# Altium schematic symbol library SWITCH.SchLib: 4 symbols
Pins are listed as number, name and electrical type; pins without a type are passive.

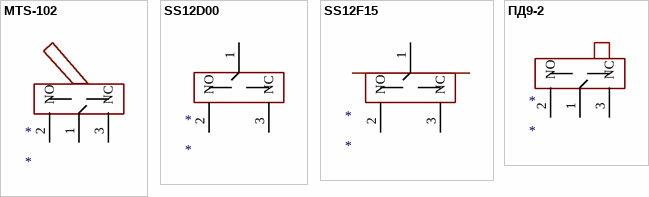
[diagram p0: symbols MTS-102 to ПД9-2]

## MTS-102
designator *
MTS-102-A1
footprint MTS-102
pins: 1 COM, 2 NO, 3 NC

## SS12D00
designator *
SS-12D00-G4
footprint SS12D00
pins: 1 COM, 2 NO, 3 NC

## SS12F15
designator *
SS12F15L5
footprint SS12F15
pins: 1 COM, 2 NO, 3 NC

## ПД9-2
designator *
ПД9-2
footprint ПД9-2
pins: 1 COM, 2 NO, 3 NC